# EAGLE library part SWITCH_1MS1T2V2 (library JLB6_Connec)
Vertical lever switch on-on with bracket
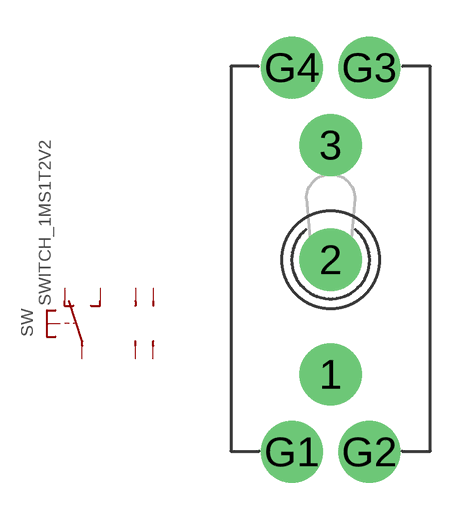
[diagram p51: symbol with the pads of ATE1; footprint ATE1]

Designator prefix SW

## SWITCH_1MS1T2V2  [ATE1]
1  NC  pas
2  COM  pas
3  NO  pas
G1  G1  pas
G2  G2  pas
G3  G3  pas
G4  G4  pas

## Footprint ATE1 (pad centres in mm)
drill 1.5 pad 2.54: 1 0,-4.699; 2 0,0; 3 0,4.699; G1 -1.587,-7.874; G2 1.587,-7.874; G3 1.587,7.874; G4 -1.587,7.874